# EAGLE library part I.MX28 (library 6klbr)
The i.MX286 has all the advantages of the low power, high-performance i.MX283 with an extra level of connectivity features by offering dual CAN support. The i.MX286 is suitable for a wide range of applications such as Human-Machine Interfaces (HMI) for Appliances, Building Contol, Factory Automation, Printers, Security Panels and factory robotics displays. Get started today building the next great portable product based on the i.MX286. Key Features: 454MHz ARM926EJ-S core with 16KB/32KB Cache PMU with high efficiency on-chip DC/DC, supports Li-Ion batteries 10/100 IEEE® 1588 Ethernet with RMII support Dual CAN interfaces LCD Controller with Touchscreen NAND support ? SLC/MLC and eMMC 4.4 managed Hardware BCH (up to 20-bit correction) 200 MHz 16-bit DDR2, LV-DDR2, mDDR external memory support Dual High speed USB with embedded PHY 8 General purpose 12-bit ADC channels and single 2 Msps ADC channel Temperature sensor for thermal protection Multiple connectivity ports (UARTs, SSP, SDIO, SPI, I2C, I2S) 3.3V I/O, 10 year lifetime (Industrial) Package and Temperature 289 BGA 14x1 4mm .8 mm -20 °C to +70 °C (Consumer) -40 °C to +85 °C (Industrial) Applications: Human-machine interface (HMI) panels: industrial, home Industrial drive, PLC, I/O control display, factory robotics display, graphical remote controls Handheld scanners and printers Patient-monitoring, portable medical devices Smart energy meters, energy gateways Media phones, media gateways
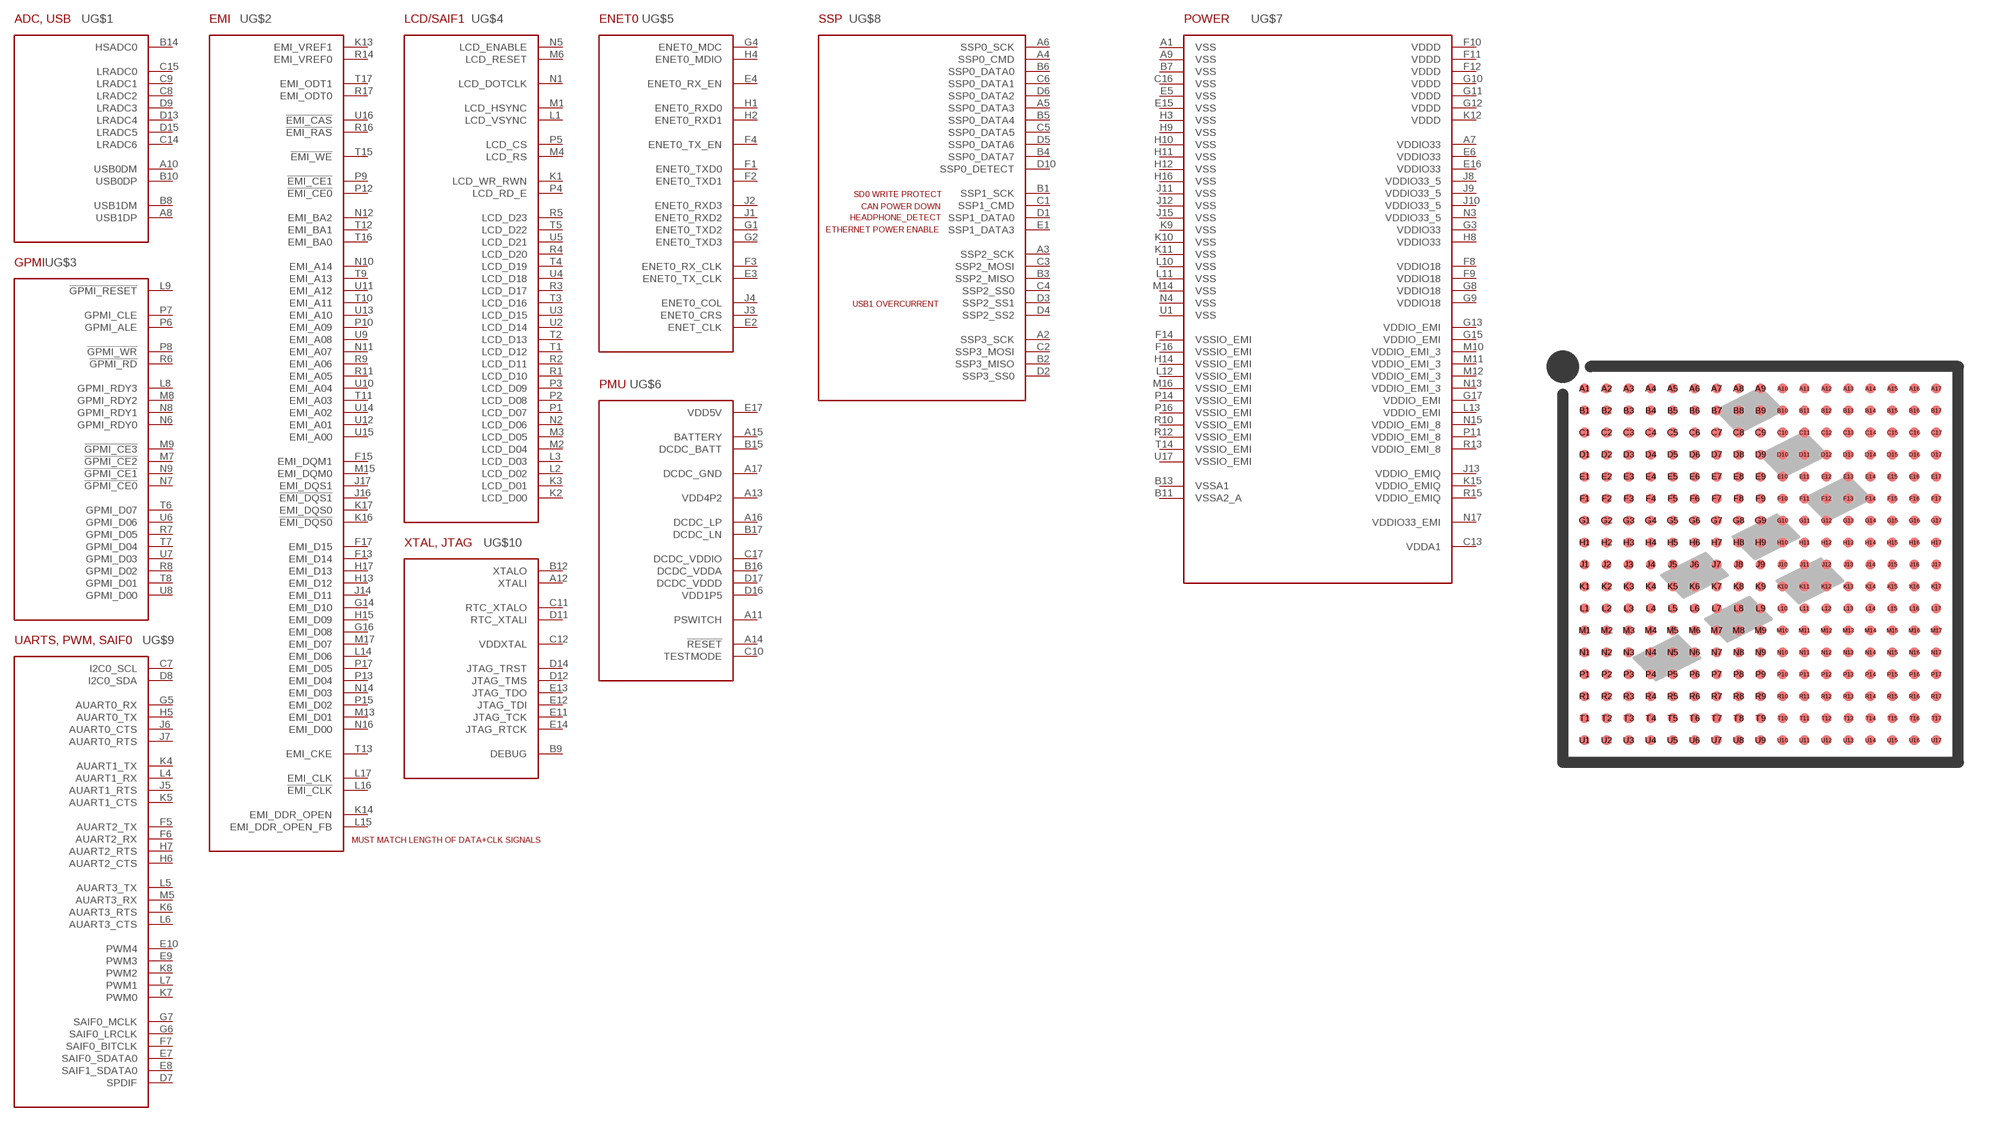
[diagram p0: symbol with the pads of BGA289; footprint BGA289]

Designator prefix -; gates G$1=IMX28_ADCUSB G$2=IMX28_EMI G$3=IMX28_GPMI G$4=IMX28_LCD G$5=IMX28_NET G$6=IMX28_PMU G$7=IMX28_POWER G$8=IMX28_SSP G$9=IMX28_UART G$10=IMX28_XTALJTAG

## I.MX286  [BGA289]
A1  G$7:VSS  pwr
A2  G$8:SSP3_SCK
A3  G$8:SSP2_SCK
A4  G$8:SSP0_CMD
A5  G$8:SSP0_DATA3
A6  G$8:SSP0_SCK
A7  G$7:VDDIO33  pwr
A8  G$1:USB1DP
A9  G$7:VSS  pwr
A10  G$1:USB0DM
A11  G$6:PSWITCH
A12  G$10:XTALI
A13  G$6:VDD4P2
A14  G$6:!RESET
A15  G$6:BATTERY
A16  G$6:DCDC_LP
A17  G$6:DCDC_GND
B1  G$8:SSP1_SCK
B2  G$8:SSP3_MISO
B3  G$8:SSP2_MISO
B4  G$8:SSP0_DATA7
B5  G$8:SSP0_DATA4
B6  G$8:SSP0_DATA0
B7  G$7:VSS  pwr
B8  G$1:USB1DM
B9  G$10:DEBUG
B10  G$1:USB0DP
B11  G$7:VSSA2_A  pwr
B12  G$10:XTALO
B13  G$7:VSSA1  pwr
B14  G$1:HSADC0
B15  G$6:DCDC_BATT
B16  G$6:DCDC_VDDA
B17  G$6:DCDC_LN
C1  G$8:SSP1_CMD
C2  G$8:SSP3_MOSI
C3  G$8:SSP2_MOSI
C4  G$8:SSP2_SS0
C5  G$8:SSP0_DATA5
C6  G$8:SSP0_DATA1
C7  G$9:I2C0_SCL
C8  G$1:LRADC2
C9  G$1:LRADC1
C10  G$6:TESTMODE
C11  G$10:RTC_XTALO
C12  G$10:VDDXTAL  pwr
C13  G$7:VDDA1  pwr
C14  G$1:LRADC6
C15  G$1:LRADC0
C16  G$7:VSS  pwr
C17  G$6:DCDC_VDDIO
D1  G$8:SSP1_DATA0
D2  G$8:SSP3_SS0
D3  G$8:SSP2_SS1
D4  G$8:SSP2_SS2
D5  G$8:SSP0_DATA6
D6  G$8:SSP0_DATA2
D7  G$9:SPDIF
D8  G$9:I2C0_SDA
D9  G$1:LRADC3
D10  G$8:SSP0_DETECT
D11  G$10:RTC_XTALI
D12  G$10:JTAG_TMS
D13  G$1:LRADC4
D14  G$10:JTAG_TRST
D15  G$1:LRADC5
D16  G$6:VDD1P5
D17  G$6:DCDC_VDDD
E1  G$8:SSP1_DATA3
E2  G$5:ENET_CLK
E3  G$5:ENET0_TX_CLK
E4  G$5:ENET0_RX_EN
E5  G$7:VSS  pwr
E6  G$7:VDDIO33  pwr
E7  G$9:SAIF0_SDATA0
E8  G$9:SAIF1_SDATA0
E9  G$9:PWM3
E10  G$9:PWM4
E11  G$10:JTAG_TCK
E12  G$10:JTAG_TDI
E13  G$10:JTAG_TDO
E14  G$10:JTAG_RTCK
E15  G$7:VSS  pwr
E16  G$7:VDDIO33  pwr
E17  G$6:VDD5V
F1  G$5:ENET0_TXD0
F2  G$5:ENET0_TXD1
F3  G$5:ENET0_RX_CLK
F4  G$5:ENET0_TX_EN
F5  G$9:AUART2_TX
F6  G$9:AUART2_RX
F7  G$9:SAIF0_BITCLK
F8  G$7:VDDIO18  pwr
F9  G$7:VDDIO18  pwr
F10  G$7:VDDD  pwr
F11  G$7:VDDD  pwr
F12  G$7:VDDD  pwr
F13  G$2:EMI_D14
F14  G$7:VSSIO_EMI  pwr
F15  G$2:EMI_DQM1
F16  G$7:VSSIO_EMI  pwr
F17  G$2:EMI_D15
G1  G$5:ENET0_TXD2
G2  G$5:ENET0_TXD3
G3  G$7:VDDIO33  pwr
G4  G$5:ENET0_MDC
G5  G$9:AUART0_RX
G6  G$9:SAIF0_LRCLK
G7  G$9:SAIF0_MCLK
G8  G$7:VDDIO18  pwr
G9  G$7:VDDIO18  pwr
G10  G$7:VDDD  pwr
G11  G$7:VDDD  pwr
G12  G$7:VDDD  pwr
G13  G$7:VDDIO_EMI  pwr
G14  G$2:EMI_D10
G15  G$7:VDDIO_EMI  pwr
G16  G$2:EMI_D08
G17  G$7:VDDIO_EMI  pwr
H1  G$5:ENET0_RXD0
H2  G$5:ENET0_RXD1
H3  G$7:VSS  pwr
H4  G$5:ENET0_MDIO
H5  G$9:AUART0_TX
H6  G$9:AUART2_CTS
H7  G$9:AUART2_RTS
H8  G$7:VDDIO33  pwr
H9  G$7:VSS  pwr
H10  G$7:VSS  pwr
H11  G$7:VSS  pwr
H12  G$7:VSS  pwr
H13  G$2:EMI_D12
H14  G$7:VSSIO_EMI  pwr
H15  G$2:EMI_D09
H16  G$7:VSS  pwr
H17  G$2:EMI_D13
J1  G$5:ENET0_RXD2
J2  G$5:ENET0_RXD3
J3  G$5:ENET0_CRS
J4  G$5:ENET0_COL
J5  G$9:AUART1_RTS
J6  G$9:AUART0_CTS
J7  G$9:AUART0_RTS
J8  G$7:VDDIO33_5  pwr
J9  G$7:VDDIO33_5  pwr
J10  G$7:VDDIO33_5  pwr
J11  G$7:VSS  pwr
J12  G$7:VSS  pwr
J13  G$7:VDDIO_EMIQ  pwr
J14  G$2:EMI_D11
J15  G$7:VSS  pwr
J16  G$2:!EMI_DQS1
J17  G$2:EMI_DQS1
K1  G$4:LCD_WR_RWN
K2  G$4:LCD_D00
K3  G$4:LCD_D01
K4  G$9:AUART1_TX
K5  G$9:AUART1_CTS
K6  G$9:AUART3_RTS
K7  G$9:PWM0
K8  G$9:PWM2
K9  G$7:VSS  pwr
K10  G$7:VSS  pwr
K11  G$7:VSS  pwr
K12  G$7:VDDD  pwr
K13  G$2:EMI_VREF1
K14  G$2:EMI_DDR_OPEN
K15  G$7:VDDIO_EMIQ  pwr
K16  G$2:!EMI_DQS0
K17  G$2:EMI_DQS0
L1  G$4:LCD_VSYNC
L2  G$4:LCD_D02
L3  G$4:LCD_D03
L4  G$9:AUART1_RX
L5  G$9:AUART3_TX
L6  G$9:AUART3_CTS
L7  G$9:PWM1
L8  G$3:GPMI_RDY3
L9  G$3:!GPMI_RESET
L10  G$7:VSS  pwr
L11  G$7:VSS  pwr
L12  G$7:VSSIO_EMI  pwr
L13  G$7:VDDIO_EMI  pwr
L14  G$2:EMI_D06
L15  G$2:EMI_DDR_OPEN_FB
L16  G$2:!EMI_CLK
L17  G$2:EMI_CLK
M1  G$4:LCD_HSYNC
M2  G$4:LCD_D04
M3  G$4:LCD_D05
M4  G$4:LCD_RS
M5  G$9:AUART3_RX
M6  G$4:LCD_RESET
M7  G$3:!GPMI_CE2
M8  G$3:GPMI_RDY2
M9  G$3:!GPMI_CE3
M10  G$7:VDDIO_EMI_3  pwr
M11  G$7:VDDIO_EMI_3  pwr
M12  G$7:VDDIO_EMI_3  pwr
M13  G$2:EMI_D01
M14  G$7:VSS  pwr
M15  G$2:EMI_DQM0
M16  G$7:VSSIO_EMI  pwr
M17  G$2:EMI_D07
N1  G$4:LCD_DOTCLK
N2  G$4:LCD_D06
N3  G$7:VDDIO33_5  pwr
N4  G$7:VSS  pwr
N5  G$4:LCD_ENABLE
N6  G$3:GPMI_RDY0
N7  G$3:!GPMI_CE0
N8  G$3:GPMI_RDY1
N9  G$3:!GPMI_CE1
N10  G$2:EMI_A14
N11  G$2:EMI_A07
N12  G$2:EMI_BA2
N13  G$7:VDDIO_EMI_3  pwr
N14  G$2:EMI_D03
N15  G$7:VDDIO_EMI_8  pwr
N16  G$2:EMI_D00
N17  G$7:VDDIO33_EMI  pwr
P1  G$4:LCD_D07
P2  G$4:LCD_D08
P3  G$4:LCD_D09
P4  G$4:LCD_RD_E
P5  G$4:LCD_CS
P6  G$3:GPMI_ALE
P7  G$3:GPMI_CLE
P8  G$3:!GPMI_WR
P9  G$2:!EMI_CE1
P10  G$2:EMI_A09
P11  G$7:VDDIO_EMI_8  pwr
P12  G$2:!EMI_CE0
P13  G$2:EMI_D04
P14  G$7:VSSIO_EMI  pwr
P15  G$2:EMI_D02
P16  G$7:VSSIO_EMI  pwr
P17  G$2:EMI_D05
R1  G$4:LCD_D10
R2  G$4:LCD_D11
R3  G$4:LCD_D17
R4  G$4:LCD_D20
R5  G$4:LCD_D23
R6  G$3:!GPMI_RD
R7  G$3:GPMI_D05
R8  G$3:GPMI_D02
R9  G$2:EMI_A06
R10  G$7:VSSIO_EMI  pwr
R11  G$2:EMI_A05
R12  G$7:VSSIO_EMI  pwr
R13  G$7:VDDIO_EMI_8  pwr
R14  G$2:EMI_VREF0
R15  G$7:VDDIO_EMIQ  pwr
R16  G$2:!EMI_RAS
R17  G$2:EMI_ODT0
T1  G$4:LCD_D12
T2  G$4:LCD_D13
T3  G$4:LCD_D16
T4  G$4:LCD_D19
T5  G$4:LCD_D22
T6  G$3:GPMI_D07
T7  G$3:GPMI_D04
T8  G$3:GPMI_D01
T9  G$2:EMI_A13
T10  G$2:EMI_A11
T11  G$2:EMI_A03
T12  G$2:EMI_BA1
T13  G$2:EMI_CKE
T14  G$7:VSSIO_EMI  pwr
T15  G$2:!EMI_WE
T16  G$2:EMI_BA0
T17  G$2:EMI_ODT1
U1  G$7:VSS  pwr
U2  G$4:LCD_D14
U3  G$4:LCD_D15
U4  G$4:LCD_D18
U5  G$4:LCD_D21
U6  G$3:GPMI_D06
U7  G$3:GPMI_D03
U8  G$3:GPMI_D00
U9  G$2:EMI_A08
U10  G$2:EMI_A04
U11  G$2:EMI_A12
U12  G$2:EMI_A01
U13  G$2:EMI_A10
U14  G$2:EMI_A02
U15  G$2:EMI_A00
U16  G$2:!EMI_CAS
U17  G$7:VSSIO_EMI  pwr

## Footprint BGA289 (pad centres in mm)
smd 0.35 x 0.35: A1 -6.4,6.4; A2 -5.6,6.4; A3 -4.8,6.4; A4 -4,6.4; A5 -3.2,6.4; A6 -2.4,6.4; A7 -1.6,6.4; A8 -0.8,6.4; A9 0,6.4; A10 0.8,6.4; A11 1.6,6.4; A12 2.4,6.4; A13 3.2,6.4; A14 4,6.4; A15 4.8,6.4; A16 5.6,6.4; A17 6.4,6.4; B1 -6.4,5.6; B2 -5.6,5.6; B3 -4.8,5.6; B4 -4,5.6; B5 -3.2,5.6; B6 -2.4,5.6; B7 -1.6,5.6; B8 -0.8,5.6; B9 0,5.6; B10 0.8,5.6; B11 1.6,5.6; B12 2.4,5.6; B13 3.2,5.6; B14 4,5.6; B15 4.8,5.6; B16 5.6,5.6; B17 6.4,5.6; C1 -6.4,4.8; C2 -5.6,4.8; C3 -4.8,4.8; C4 -4,4.8; C5 -3.2,4.8; C6 -2.4,4.8; C7 -1.6,4.8; C8 -0.8,4.8; C9 0,4.8; C10 0.8,4.8; C11 1.6,4.8; C12 2.4,4.8; C13 3.2,4.8; C14 4,4.8; C15 4.8,4.8; C16 5.6,4.8; C17 6.4,4.8; D1 -6.4,4; D2 -5.6,4; D3 -4.8,4; D4 -4,4; D5 -3.2,4; D6 -2.4,4; D7 -1.6,4; D8 -0.8,4; D9 0,4; D10 0.8,4; D11 1.6,4; D12 2.4,4; D13 3.2,4; D14 4,4; D15 4.8,4; D16 5.6,4; D17 6.4,4; E1 -6.4,3.2; E2 -5.6,3.2; E3 -4.8,3.2; E4 -4,3.2; E5 -3.2,3.2; E6 -2.4,3.2; E7 -1.6,3.2; E8 -0.8,3.2; E9 0,3.2; E10 0.8,3.2; E11 1.6,3.2; E12 2.4,3.2; E13 3.2,3.2; E14 4,3.2; E15 4.8,3.2; E16 5.6,3.2; E17 6.4,3.2; F1 -6.4,2.4; F2 -5.6,2.4; F3 -4.8,2.4; F4 -4,2.4; F5 -3.2,2.4; F6 -2.4,2.4; F7 -1.6,2.4; F8 -0.8,2.4; F9 0,2.4; F10 0.8,2.4; F11 1.6,2.4; F12 2.4,2.4; F13 3.2,2.4; F14 4,2.4; F15 4.8,2.4; F16 5.6,2.4; F17 6.4,2.4; G1 -6.4,1.6; G2 -5.6,1.6; G3 -4.8,1.6; G4 -4,1.6; G5 -3.2,1.6; G6 -2.4,1.6; G7 -1.6,1.6; G8 -0.8,1.6; G9 0,1.6; G10 0.8,1.6; G11 1.6,1.6; G12 2.4,1.6; G13 3.2,1.6; G14 4,1.6; G15 4.8,1.6; G16 5.6,1.6; G17 6.4,1.6; H1 -6.4,0.8; H2 -5.6,0.8; H3 -4.8,0.8; H4 -4,0.8; H5 -3.2,0.8; H6 -2.4,0.8; H7 -1.6,0.8; H8 -0.8,0.8; H9 0,0.8; H10 0.8,0.8; H11 1.6,0.8; H12 2.4,0.8; H13 3.2,0.8; H14 4,0.8; H15 4.8,0.8; H16 5.6,0.8; H17 6.4,0.8; J1 -6.4,0; J2 -5.6,0; J3 -4.8,0; J4 -4,0; J5 -3.2,0; J6 -2.4,0; J7 -1.6,0; J8 -0.8,0; J9 0,0; J10 0.8,0; J11 1.6,0; J12 2.4,0; J13 3.2,0; J14 4,0; J15 4.8,0; J16 5.6,0; J17 6.4,0; K1 -6.4,-0.8; K2 -5.6,-0.8; K3 -4.8,-0.8; K4 -4,-0.8; K5 -3.2,-0.8; K6 -2.4,-0.8; K7 -1.6,-0.8; K8 -0.8,-0.8; K9 0,-0.8; K10 0.8,-0.8; K11 1.6,-0.8; K12 2.4,-0.8; K13 3.2,-0.8; K14 4,-0.8; K15 4.8,-0.8; K16 5.6,-0.8; K17 6.4,-0.8; L1 -6.4,-1.6; L2 -5.6,-1.6; L3 -4.8,-1.6; L4 -4,-1.6; L5 -3.2,-1.6; L6 -2.4,-1.6; L7 -1.6,-1.6; L8 -0.8,-1.6; L9 0,-1.6; L10 0.8,-1.6; L11 1.6,-1.6; L12 2.4,-1.6; L13 3.2,-1.6; L14 4,-1.6; L15 4.8,-1.6; L16 5.6,-1.6; L17 6.4,-1.6; M1 -6.4,-2.4; M2 -5.6,-2.4; M3 -4.8,-2.4; M4 -4,-2.4; M5 -3.2,-2.4; M6 -2.4,-2.4; M7 -1.6,-2.4; M8 -0.8,-2.4; M9 0,-2.4; M10 0.8,-2.4; M11 1.6,-2.4; M12 2.4,-2.4; M13 3.2,-2.4; M14 4,-2.4; M15 4.8,-2.4; M16 5.6,-2.4; M17 6.4,-2.4; N1 -6.4,-3.2; N2 -5.6,-3.2; N3 -4.8,-3.2; N4 -4,-3.2; N5 -3.2,-3.2; N6 -2.4,-3.2; N7 -1.6,-3.2; N8 -0.8,-3.2; N9 0,-3.2; N10 0.8,-3.2; N11 1.6,-3.2; N12 2.4,-3.2; N13 3.2,-3.2; N14 4,-3.2; N15 4.8,-3.2; N16 5.6,-3.2; N17 6.4,-3.2; P1 -6.4,-4; P2 -5.6,-4; P3 -4.8,-4; P4 -4,-4; P5 -3.2,-4; P6 -2.4,-4; P7 -1.6,-4; P8 -0.8,-4; P9 0,-4; P10 0.8,-4; P11 1.6,-4; P12 2.4,-4; P13 3.2,-4; P14 4,-4; P15 4.8,-4; P16 5.6,-4; P17 6.4,-4; R1 -6.4,-4.8; R2 -5.6,-4.8; R3 -4.8,-4.8; R4 -4,-4.8; R5 -3.2,-4.8; R6 -2.4,-4.8; R7 -1.6,-4.8; R8 -0.8,-4.8; R9 0,-4.8; R10 0.8,-4.8; R11 1.6,-4.8; R12 2.4,-4.8; R13 3.2,-4.8; R14 4,-4.8; R15 4.8,-4.8; R16 5.6,-4.8; R17 6.4,-4.8; T1 -6.4,-5.6; T2 -5.6,-5.6; T3 -4.8,-5.6; T4 -4,-5.6; T5 -3.2,-5.6; T6 -2.4,-5.6; T7 -1.6,-5.6; T8 -0.8,-5.6; T9 0,-5.6; T10 0.8,-5.6; T11 1.6,-5.6; T12 2.4,-5.6; T13 3.2,-5.6; T14 4,-5.6; T15 4.8,-5.6; T16 5.6,-5.6; T17 6.4,-5.6; U1 -6.4,-6.4; U2 -5.6,-6.4; U3 -4.8,-6.4; U4 -4,-6.4; U5 -3.2,-6.4; U6 -2.4,-6.4; U7 -1.6,-6.4; U8 -0.8,-6.4; U9 0,-6.4; U10 0.8,-6.4; U11 1.6,-6.4; U12 2.4,-6.4; U13 3.2,-6.4; U14 4,-6.4; U15 4.8,-6.4; U16 5.6,-6.4; U17 6.4,-6.4